# Altium footprint library MOUNTING_HOLE_3MM_RND.PcbLib: 1 footprints
Each footprint in its own frame and in the unit in brackets; x right, y up, seen from the top. Pads: shape width x height; smd on the part's side, far side on the other; paste and mask are expansions set on the pad; w line width, h text height; cw(c..) or ccw(c..) is an arc to the next point about the centre after c.
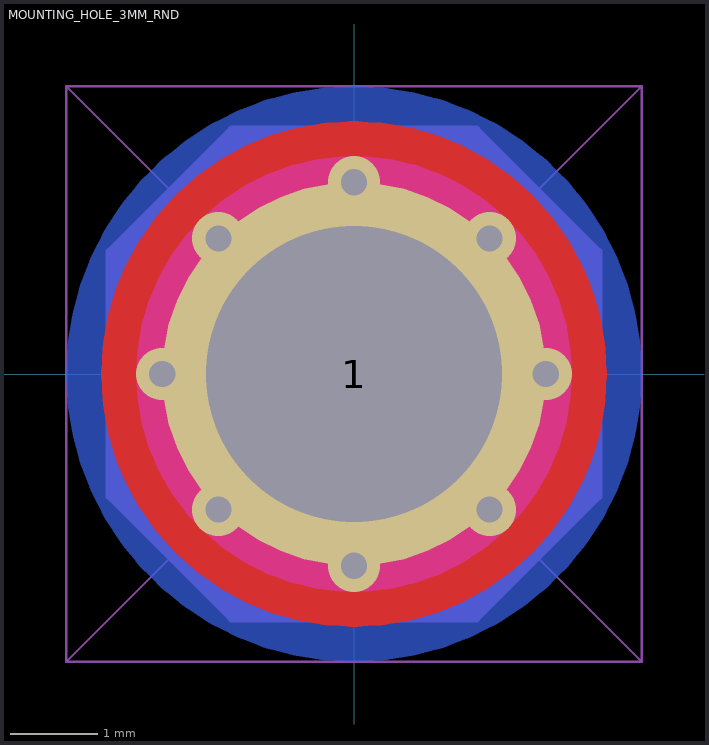
[diagram p0: the footprint, top view; thin cyan lines are the x and y axes]

## MOUNTING_HOLE_3MM_RND [mm] "Non-plated mounting hole for 3mm screw"
height 3.5
pads (1):
  round 4.4 hole 3.4 mask+0.038: 1(0,0)
via 0,2.2 diameter 0.6 hole 0.3
via -1.556,1.556 diameter 0.6 hole 0.3
via -2.2,0 diameter 0.6 hole 0.3
via -1.556,-1.556 diameter 0.6 hole 0.3
via 0,-2.2 diameter 0.6 hole 0.3
via 1.556,-1.556 diameter 0.6 hole 0.3
via 2.2,0 diameter 0.6 hole 0.3
via 1.556,1.556 diameter 0.6 hole 0.3
Top Layer:
  circle w1: c0,0 r2.4
Bottom Layer:
  circle w1.2: c0,0 r2.702
Top Solder:
  circle w1.6: c0,0 r2.4
Bottom Solder:
  circle w2.6: c0,0 r2.3
Keep-Out Layer:
  circle w0.6: c0,0 r2.2
Mechanical 2:
  lines w0.025: -3.3,-3.3 -3.3,3.3 ; -3.3,-3.3 3.3,-3.3 ; -3.3,-3.3 0,0 ; -3.3,3.3 0,0 ; -3.3,3.3 3.3,3.3 ; 0,0 3.3,3.3 ; 0,0 3.3,-3.3 ; 3.3,-3.3 3.3,3.3
Mechanical 7:
  circle w0.1: c0,0.002 r2.7
  circle w1.2: c0,0 r2.2
  rectangle: 0.5,0.8 1.6,1.6
  region: 1.6,0.5 1.6,1.6 0.8,1.6 0.8,0.5
  region: 0.5,0.8 0.8,0.5 1.366,1.066 1.066,1.366
  region: -0.8,0.5 -0.8,1.6 -1.6,1.6 -1.6,0.5
  region: -0.5,1.6 -1.6,1.6 -1.6,0.8 -0.5,0.8
  region: -0.8,0.5 -0.5,0.8 -1.066,1.366 -1.366,1.066
  region: -0.5,-0.8 -1.6,-0.8 -1.6,-1.6 -0.5,-1.6
  region: -1.6,-0.5 -1.6,-1.6 -0.8,-1.6 -0.8,-0.5
  region: -0.5,-0.8 -0.8,-0.5 -1.366,-1.066 -1.066,-1.366
  region: 0.8,-0.5 0.8,-1.6 1.6,-1.6 1.6,-0.5
  rectangle: 0.5,-1.6 1.6,-0.8
  region: 0.8,-0.5 0.5,-0.8 1.066,-1.366 1.366,-1.066
Mechanical 8:
  circle w0.6: c0,0 r2
  rectangle: 1.7,-1.4 2.8,1.4
  region: -1.951,-0.551 -2.8,-1.4 -1.4,-2.8 -0.551,-1.951
  region: -0.551,1.951 -1.4,2.8 -2.8,1.4 -1.951,0.551
  region: 1.951,0.551 2.8,1.4 1.4,2.8 0.551,1.951
  region: 0.551,-1.951 1.4,-2.8 2.8,-1.4 1.951,-0.551
  region: -1.4,-1.7 -1.4,-2.8 1.4,-2.8 1.4,-1.7
  region: 1.4,1.7 1.4,2.8 -1.4,2.8 -1.4,1.7
  rectangle: -2.8,-1.4 -1.7,1.4
  lines w0.1: -2.8,-1.4 -1.4,-2.8 1.4,-2.8 2.8,-1.4 2.8,1.4 1.4,2.8 -1.4,2.8 -2.8,1.4 -2.8,-1.4